# Altium footprint library VIA_TYPES.PcbLib: 1 footprints
Each footprint in its own frame and in the unit in brackets; x right, y up, seen from the top. Pads: shape width x height; smd on the part's side, far side on the other; paste and mask are expansions set on the pad; w line width, h text height; cw(c..) or ccw(c..) is an arc to the next point about the centre after c.

## VIA_TYPES [mm] "Vias with various tenting options"
via 2.54,0 diameter 0.457 hole 0.152
via 0,0 diameter 0.508 hole 0.203
via -2.54,0 diameter 0.61 hole 0.254